# Altium schematic symbol library ButtonSwitch.SchLib: 1 symbol
Pins are listed as number, name and electrical type; pins without a type are passive.

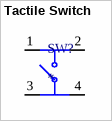
[diagram p0: symbol Tactile Switch]

## Tactile Switch
designator SW?
Switch Contact
footprint TactileSwitch
pins: 1, 2, 3, 4